# EAGLE library part MIC2860-2PYD6TR (library Micrel_By_element14_Batch_1)
High Efficiency 2 Channel WLED Driver with PWM Control
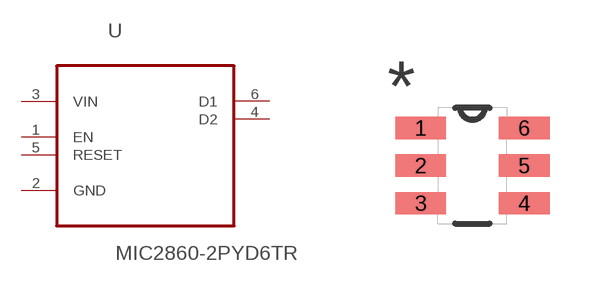
[diagram p11: symbol with the pads of SOT95P280X145-6N; footprint SOT95P280X145-6N]

Designator prefix U

## MIC2860-2PYD6TR (MPN: MIC2860-2PYD6TR; OC_FARNELL: 1924728; OC_NEWARK: 58T4914; PACKAGE: SOT-23-6; SUPPLIER: MICREL SEMICONDUCTOR)  [SOT95P280X145-6N]
1  EN  in
2  GND  pas
3  VIN  in
4  D2  out
5  RESET  in
6  D1  out

## Footprint SOT95P280X145-6N (pad centres in mm)
smd 1.27 x 0.559: 1 -1.295,0.94; 2 -1.295,0; 3 -1.295,-0.94; 4 1.295,-0.94; 5 1.295,0; 6 1.295,0.94